# Altium integrated library WS-TASV SMD Tact Switch 6.0X3.5 mm.IntLib: 8 symbols
Pins are listed as number, name and electrical type; pins without a type are passive.

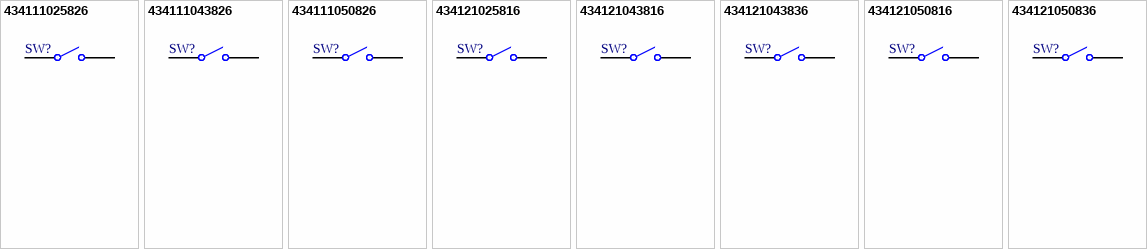
[diagram p0: symbols 434111025826 to 434121050836]

## 434111025826
designator SW?
WS-TASV SMD Tact Switch 6.0X3.8 mm; PartNumber: 434111025826; NoPins: 02; PackageReference: 434111025826; ComponentLink1Description: Manufacturer URL; ComponentLink1URL: http://www.we-online.com; ComponentLink2Description: Datasheet; ComponentLink2URL: http://katalog.we-online.de/em/datasheet/434111025826.pdf
footprint 434111025826 (6.0*3.8mm vertical type, SMD,  height 2.5mm, white actuator, 260gf, T&R)
pins: 1, 2

## 434111043826
designator SW?
WS-TASV SMD Tact Switch 6.0X3.5 mm; PartNumber: 434111043826; NoPins: 02; PackageReference: 434111043826; ComponentLink1Description: Manufacturer URL; ComponentLink1URL: http://www.we-online.com; ComponentLink2Description: Datasheet; ComponentLink2URL: http://katalog.we-online.de/em/datasheet/434111043826.pdf
footprint 434111043826 (6.0*3.5mm vertical type, SMD, height 4.3mm, white actuator, 260gf, T&R)
pins: 1, 2

## 434111050826
designator SW?
WS-TASV SMD Tact Switch 6.0X3.5 mm; PartNumber: 434111050826; NoPins: 02; PackageReference: 434111050826; ComponentLink1Description: Manufacturer URL; ComponentLink1URL: http://www.we-online.com; ComponentLink2Description: Datasheet; ComponentLink2URL: http://katalog.we-online.de/em/datasheet/434111050826.pdf
footprint 434111050826 (6.0*3.5mm vertical type, SMD, height 5.0mm, white actuator, 260gf, T&R)
pins: 1, 2

## 434121025816
designator SW?
WS-TASV SMD Tact Switch 6.0X3.8 mm; PartNumber: 434121025816; NoPins: 02; PackageReference: 434121025816; ComponentLink1Description: Manufacturer URL; ComponentLink1URL: http://www.we-online.com; ComponentLink2Description: Datasheet; ComponentLink2URL: http://katalog.we-online.de/em/datasheet/434121025816.pdf
footprint 434121025816 (6.0*3.8mm vertical type, SMD, height 2.5mm, black actuator, 160gf, T&R)
pins: 1, 2

## 434121043816
designator SW?
WS-TASV SMD Tact Switch 6.0X3.5 mm; PartNumber: 434121043816; NoPins: 02; PackageReference: 434121043816; ComponentLink1Description: Manufacturer URL; ComponentLink1URL: http://www.we-online.com; ComponentLink2Description: Datasheet; ComponentLink2URL: http://katalog.we-online.de/em/datasheet/434121043816.pdf
footprint 434121043816 (6.0*3.5mm vertical type, SMD, height 4.3mm, black actuator, 160gf, T&R)
pins: 1, 2

## 434121043836
designator SW?
WS-TASV SMD Tact Switch 6.0X3.5 mm; PartNumber: 434121043836; NoPins: 02; PackageReference: 434121043836; ComponentLink1Description: Manufacturer URL; ComponentLink1URL: http://www.we-online.com; ComponentLink2Description: Datasheet; ComponentLink2URL: http://katalog.we-online.de/em/datasheet/434121043836.pdf
footprint 434121043836 (6.0*3.5mm vertical type, SMD, height 4.3mm, salmon actuator, 360gf, T&R)
pins: 1, 2

## 434121050816
designator SW?
WS-TASV SMD Tact Switch 6.0X3.5 mm; PartNumber: 434121050816; NoPins: 02; PackageReference: 434121050816; ComponentLink1Description: Manufacturer URL; ComponentLink1URL: http://www.we-online.com; ComponentLink2Description: Datasheet; ComponentLink2URL: http://katalog.we-online.de/em/datasheet/434121050816.pdf
footprint 434121050816 (6.0*3.5mm vertical type, SMD, height 5.0mm, black actuator, 160gf, T&R)
pins: 1, 2

## 434121050836
designator SW?
WS-TASV SMD Tact Switch 6.0X3.5 mm; PartNumber: 434121050836; NoPins: 04; PackageReference: 434121050836; ComponentLink1Description: Manufacturer URL; ComponentLink1URL: http://www.we-online.com; ComponentLink2Description: Datasheet; ComponentLink2URL: http://katalog.we-online.de/em/datasheet/434121050836.pdf
footprint 434121050836 (6.0*3.5mm vertical type, SMD, height 5.0mm, salmon actuator, 360gf, T&R)
pins: 1, 2